# Altium footprint library Vishay Sprague Tantalum Axial-Lead Capacitor.PcbLib: 43 footprints (part 3 of 3)
Each footprint in its own frame and in the unit in brackets; x right, y up, seen from the top. Pads: shape width x height; smd on the part's side, far side on the other; paste and mask are expansions set on the pad; w line width, h text height; cw(c..) or ccw(c..) is an arc to the next point about the centre after c.
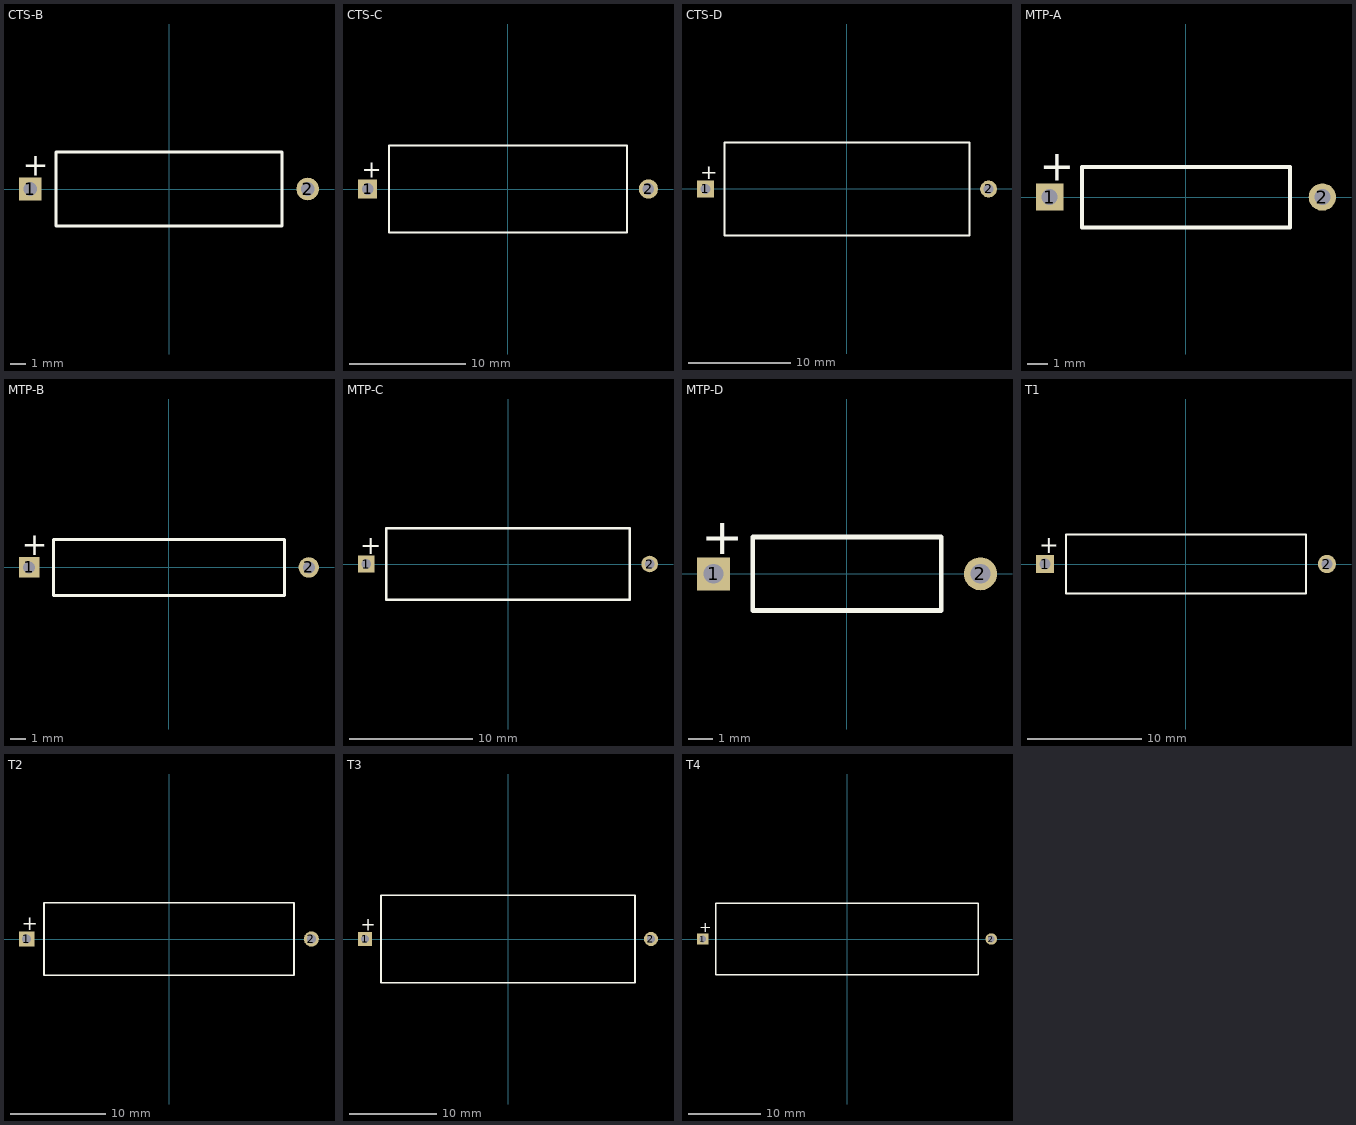
[diagram p2: the footprints below, top view; thin cyan lines are the x and y axes]

## CTS-B [mm] "Capacitor, Axial, Polarised; Body 12.8 x 4.9 mm (LxDia. max), Lead Dia. 0.53 mm (typ)"
height 4.9
pads (2):
  rect 1.5x1.5 hole 0.9: 1(-9.2,0)
  round 1.5 hole 0.9: 2(9.2,0)
Top Overlay:
  lines w0.2: -7.5,-2.45 -7.5,2.45 7.5,2.45 7.5,-2.45 -7.5,-2.45
  text "+" at -9.7,0.875 h1.5

## CTS-C [mm] "Capacitor, Axial, Polarised; Body 18.2 x 7.5 mm (LxDia. max), Lead Dia. 0.63 mm (typ)"
height 7.5
pads (2):
  rect 1.65x1.65 hole 1: 1(-12.1,0)
  round 1.65 hole 1: 2(12.1,0)
Top Overlay:
  lines w0.2: -10.25,-3.75 10.25,-3.75 10.25,3.75 -10.25,3.75 -10.25,-3.75
  text "+" at -12.6,0.95 h1.5

## CTS-D [mm] "Capacitor, Axial, Polarised; Body 20.8 x 9.1 mm (LxDia. max), Lead Dia. 0.63 mm (typ)"
height 9.1
pads (2):
  rect 1.65x1.65 hole 1: 1(-13.85,0)
  round 1.65 hole 1: 2(13.85,0)
Top Overlay:
  lines w0.2: -12,-4.55 -12,4.55 12,4.55 12,-4.55 -12,-4.55
  text "+" at -14.35,0.95 h1.5

## MTP-A [mm] "Capacitor, Axial, Polarised; Body 10.2 x 2.9 mm (LxDia. max), Lead Dia. 0.51 mm (typ)"
height 3
pads (2):
  rect 1.35x1.35 hole 0.8: 1(-6.75,0)
  round 1.35 hole 0.8: 2(6.75,0)
Top Overlay:
  lines w0.2: -5.15,-1.5 5.15,-1.5 5.15,1.5 -5.15,1.5 -5.15,-1.5
  text "+" at -7.25,0.8 h1.5

## MTP-B [mm] "Capacitor, Axial, Polarised; Body 15.2 x 3.7 mm (LxDia. max), Lead Dia. 0.51 mm (typ)"
height 3.7
pads (2):
  rect 1.35x1.35 hole 0.8: 1(-9.25,0)
  round 1.35 hole 0.8: 2(9.25,0)
Top Overlay:
  lines w0.2: -7.65,-1.85 -7.65,1.85 7.65,1.85 7.65,-1.85 -7.65,-1.85
  text "+" at -9.75,0.8 h1.5

## MTP-C [mm] "Capacitor, Axial, Polarised; Body 19.8 x 5.7 mm (LxDia. max), Lead Dia. 0.51 mm (typ)"
height 5.8
pads (2):
  rect 1.35x1.35 hole 0.8: 1(-11.5,0)
  round 1.35 hole 0.8: 2(11.5,0)
Top Overlay:
  lines w0.2: -9.9,-2.9 -9.9,2.9 9.9,2.9 9.9,-2.9 -9.9,-2.9
  text "+" at -12,0.8 h1.5

## MTP-D [mm] "Capacitor, Axial, Polarised; Body 7.6 x 2.9 mm (LxDia. max), Lead Dia. 0.51 mm (typ)"
height 3
pads (2):
  rect 1.35x1.35 hole 0.8: 1(-5.45,0)
  round 1.35 hole 0.8: 2(5.45,0)
Top Overlay:
  lines w0.2: -3.85,-1.5 3.85,-1.5 3.85,1.5 -3.85,1.5 -3.85,-1.5
  text "+" at -5.95,0.8 h1.5

## T1 [mm] "Capacitor, Axial, Polarised; Body 12.3 x 5.2 mm (LxDia. max), Lead Dia. 0.64 mm (typ)"
height 5.2
pads (2):
  rect 1.6x1.6 hole 0.95: 1(-12.38,0)
  round 1.6 hole 0.95: 2(12.38,0)
Top Overlay:
  lines w0.2: -10.55,-2.6 -10.55,2.6 10.55,2.6 10.55,-2.6 -10.55,-2.6
  text "+" at -12.88,0.925 h1.5

## T2 [mm] "Capacitor, Axial, Polarised; Body 17.1 x 7.5 mm (LxDia. max), Lead Dia. 0.64 mm (typ)"
height 7.6
pads (2):
  rect 1.6x1.6 hole 0.95: 1(-14.93,0)
  round 1.6 hole 0.95: 2(14.93,0)
Top Overlay:
  lines w0.2: -13.1,-3.8 13.1,-3.8 13.1,3.8 -13.1,3.8 -13.1,-3.8
  text "+" at -15.43,0.925 h1.5

## T3 [mm] "Capacitor, Axial, Polarised; Body 20.2 x 9.9 mm (LxDia. max), Lead Dia. 0.64 mm (typ)"
height 10
pads (2):
  rect 1.6x1.6 hole 0.95: 1(-16.33,0)
  round 1.6 hole 0.95: 2(16.33,0)
Top Overlay:
  lines w0.2: -14.5,-5 14.5,-5 14.5,5 -14.5,5 -14.5,-5
  text "+" at -16.83,0.925 h1.5

## T4 [mm] "Capacitor, Axial, Polarised; Body 27.8 x 9.9 mm (LxDia. max), Lead Dia. 0.64 mm (typ)"
height 10
pads (2):
  rect 1.6x1.6 hole 0.95: 1(-20.08,0)
  round 1.6 hole 0.95: 2(20.08,0)
Top Overlay:
  lines w0.2: -18.25,-5 -18.25,5 18.25,5 18.25,-5 -18.25,-5
  text "+" at -20.58,0.925 h1.5